# Altium footprint library MOLEX_22-27-2061.PcbLib: 1 footprints
Each footprint in its own frame and in the unit in brackets; x right, y up, seen from the top. Pads: shape width x height; smd on the part's side, far side on the other; paste and mask are expansions set on the pad; w line width, h text height; cw(c..) or ccw(c..) is an arc to the next point about the centre after c.
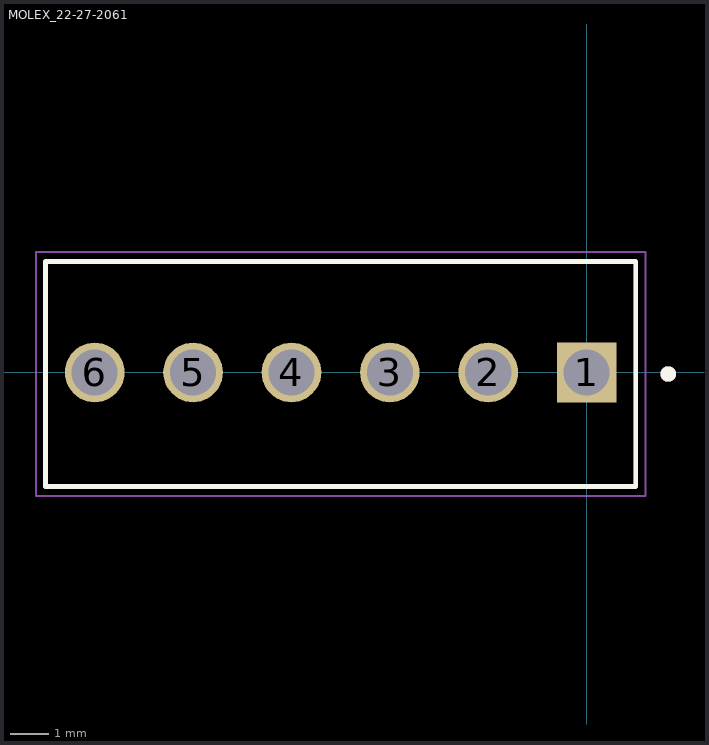
[diagram p0: the footprint, top view; thin cyan lines are the x and y axes]

## MOLEX_22-27-2061 [mm]
pads (6):
  rect 1.54x1.54 hole 1.19: 1(0,0)
  round 1.54 hole 1.19: 2(-2.54,0) 3(-5.08,0) 4(-7.62,0) 5(-10.16,0) 6(-12.7,0)
Top Overlay:
  circle w0.2: c2.11,-0.04 r0.1
  lines w0.127: -13.97,-2.94 1.27,-2.94 1.27,2.86 -13.97,2.86 -13.97,-2.94
Mechanical 13:
  circle w0.2: c2.11,-0.04 r0.1
  lines w0.127: -13.97,-2.94 1.27,-2.94 1.27,2.86 -13.97,2.86 -13.97,-2.94
Mechanical 15:
  lines w0.05: -14.22,-3.19 1.52,-3.19 1.52,3.11 -14.22,3.11 -14.22,-3.19